# Altium schematic symbol library BJT-PNP-Small.SchLib: 1 symbol
Pins are listed as number, name and electrical type; pins without a type are passive.

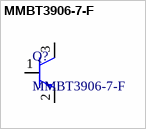
[diagram p0: symbol MMBT3906-7-F]

## MMBT3906-7-F
designator Q?
Bipolar (BJT) Transistor PNP 40 V 200 mA 250MHz 300 mW Surface Mount SOT-23-3; Volt: 20V; Supplier 1: Digi-Key; Supplier Part Number 1: MMBT3906-FDITR-ND; Package / Case: SOT-523; Mounted: Yes; ComponentLink1Description: DataSheet; ComponentLink1URL: https://www.diodes.com/assets/Datasheets/MMBT3906.pdf; HelpURL: https://www.diodes.com/assets/Datasheets/MMBT3906.pdf
footprint SOT-23-3 (SOT23-3, from TI DBZ (R-PDSO-G3))
pins: 1, 2, 3